# Altium schematic symbol library 74LVT126BQ.SchLib: 1 symbol
Pins are listed as number, name and electrical type; pins without a type are passive.

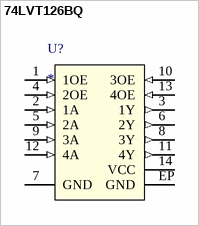
[diagram p0: symbol 74LVT126BQ]

## 74LVT126BQ
designator U?
74LVT126BQ
pins: 1 1OE (in), 2 1A (in), 3 1Y (out), 4 2OE (in), 5 2A (in), 6 2Y (out), 7 GND (power), 8 3Y (out), 9 3A (in), 10 3OE (in), 11 4Y (out), 12 4A (in), 13 4OE (in), 14 VCC (power), EP GND (power)